# Altium footprint library descret_pcb.PcbLib: 152 footprints (part 6 of 10)
Each footprint in its own frame and in the unit in brackets; x right, y up, seen from the top. Pads: shape width x height; smd on the part's side, far side on the other; paste and mask are expansions set on the pad; w line width, h text height; cw(c..) or ccw(c..) is an arc to the next point about the centre after c.
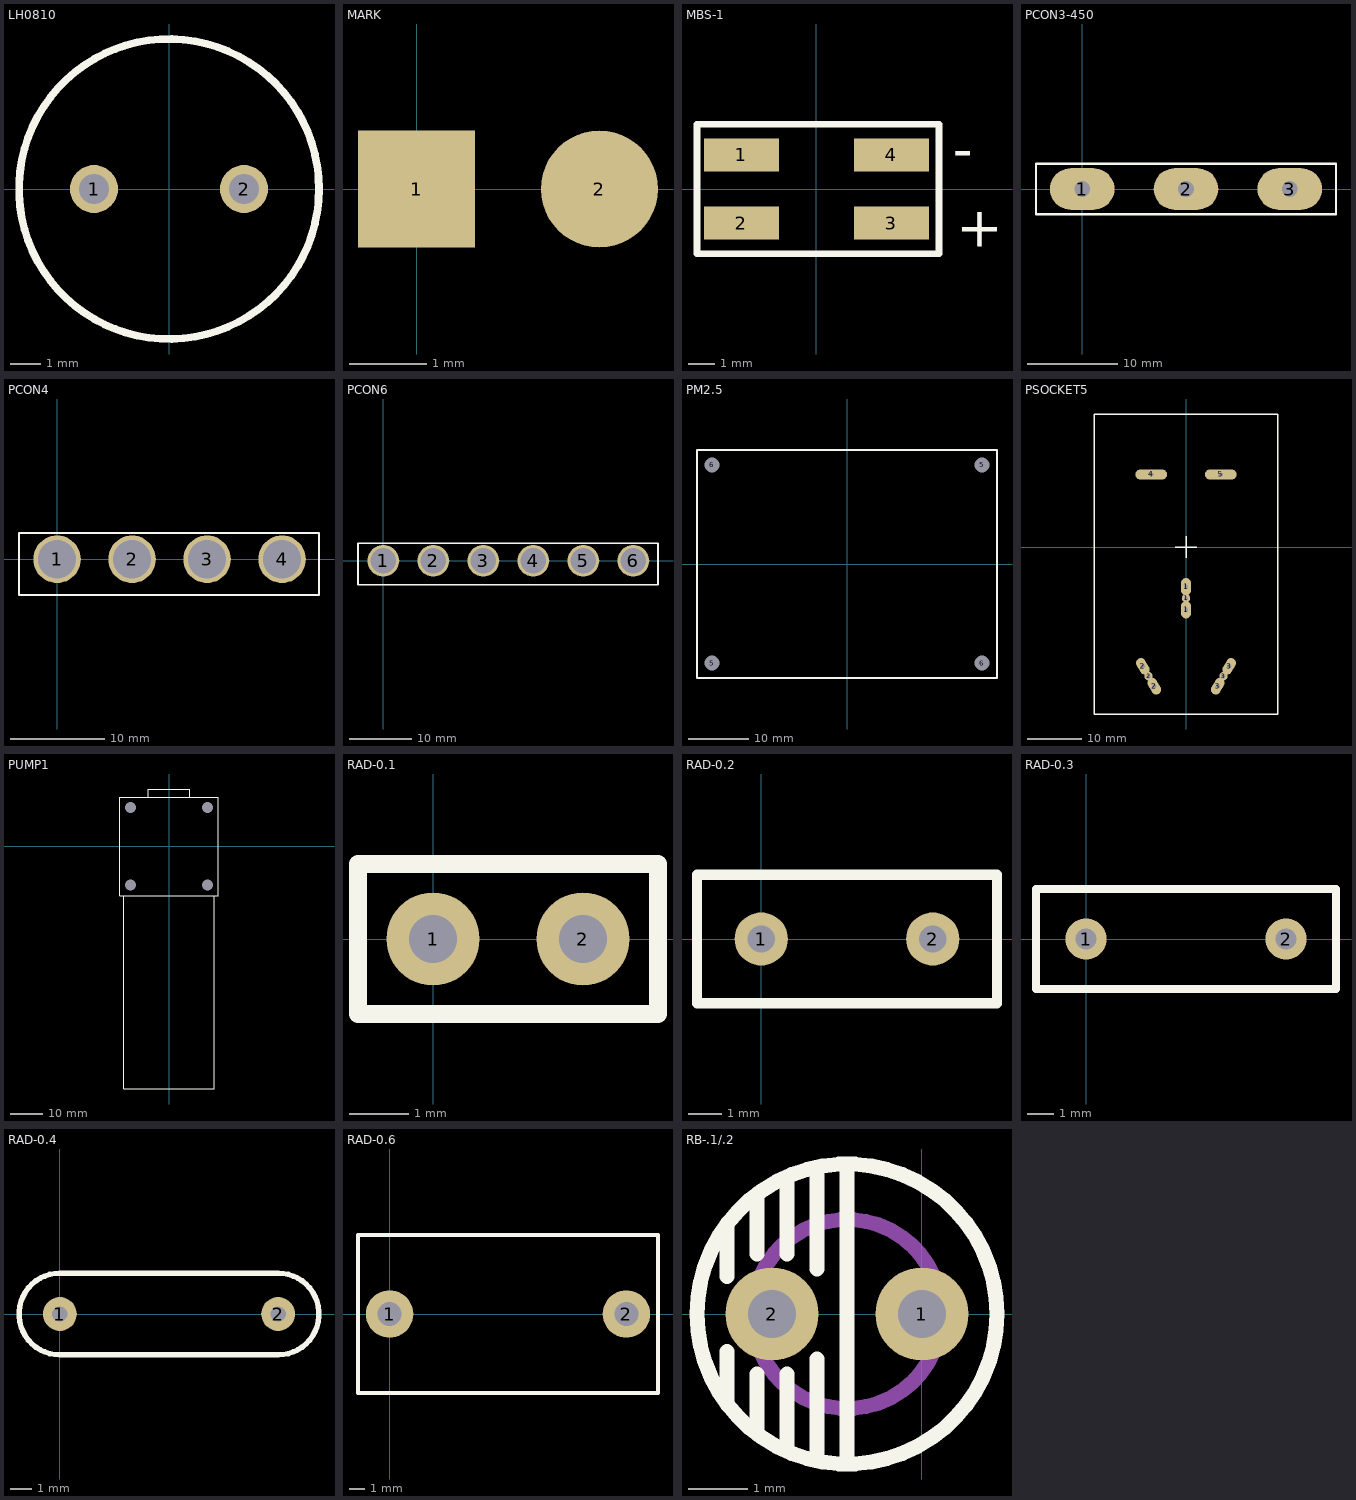
[diagram p5: the footprints below, top view; thin cyan lines are the x and y axes]

## LH0810 [mm]
pads (2):
  round 1.6 hole 1: 1(-2.5,0) 2(2.5,0)
TopOverlay:
  circle w0.254: c0,0 r5
3D body "Coilcraft-RFB0807.STEP": height 7.5, standoff -3.5, extent -4.4,-4.4 4.4,4.4

## MARK [mil]
pads (2):
  rect 60x60 smd: 1(0,0)
  round 60 smd: 2(93.7,0)

## MBS-1 [mil]
pads (4):
  rect 110x48 smd: 1(-110,50) 2(-110,-50) 3(110,-50) 4(110,50)
TopOverlay:
  lines w10: -175,-95 180,-95 180,95 -175,95 -175,-95
  text "-" at 200,30 h60
  text "+" at 205,-85 h60

## PCBComponent_1 [mil]

## PCON3-450 [mil]
pads (3):
  oval 280x180 hole 68: 1(0,0) 2(450,0) 3(900,0)
TopOverlay:
  lines w10: -200,-110 -200,110 1100,110 1100,-110 -200,-110
Mechanical1:
  lines w8: -85,-33 85,-33 85,33 -85,33 -85,-33 ; 365,-33 535,-33 535,33 365,33 365,-33 ; 815,-33 985,-33 985,33 815,33 815,-33

## PCON4 [mil]
pads (4):
  round 200 hole 160: 1(0,0) 2(315,0) 3(630,0) 4(945,0)
TopOverlay:
  lines w10: -160,-150 1100,-150 1100,110 -160,110 -160,-150

## PCON6 [mil]
pads (6):
  round 200 hole 160: 1(0,0) 2(315,0) 3(630,0) 4(945,0) 5(1260,0) 6(1575,0)
TopOverlay:
  lines w10: -160,-150 -160,110 1730,110 1730,-150 -160,-150

## PM2.5 [mm]
pads (4):
  round 1.524 hole 2.5: 5(-22.5,-16.5) 5(22.5,16.5) 6(-22.5,16.5) 6(22.5,-16.5)
TopOverlay:
  lines w0.254: -25,-19 -25,19 25,19 25,-19 -25,-19

## PSOCKET5 [mm]
pads (11):
  oval 1.8x3.2 hole 0.8: 1(0,-11.45) 1(0,-7.25)
  round 1.524 hole 0.762: 1(0,-9.35) 2(-6.842,-23.6) 3(6.842,-23.6)
  oval 1.8x3.2 hole 0.8 rot 30: 2(-7.892,-21.781) 2(-5.792,-25.419)
  oval 1.8x3.2 hole 0.8 rot 150: 3(5.792,-25.419) 3(7.892,-21.781)
  oval 5.8x1.8 hole 0.762: 4(-6.35,13.25) 5(6.35,13.25)
TopOverlay:
  lines w0.254: -2,0 2,0 ; 0,-2 0,2 ; -16.75,-30.5 16.75,-30.5 16.75,24.3 -16.75,24.3 -16.75,-30.5
Mechanical1:
  lines w0.2: -8.738,-21.115 -7.738,-22.847 -7.045,-22.447 -8.045,-20.715 -8.738,-21.115 ; -8.65,12.85 -8.65,13.65 -4.05,13.65 -4.05,12.85 -8.65,12.85 ; -6.638,-24.753 -5.945,-24.353 -4.945,-26.085 -5.638,-26.485 -6.638,-24.753 ; -0.4,-12.45 0.4,-12.45 0.4,-10.45 -0.4,-10.45 -0.4,-12.45 ; -0.4,-8.25 0.4,-8.25 0.4,-6.25 -0.4,-6.25 -0.4,-8.25 ; 4.05,12.85 4.05,13.65 8.65,13.65 8.65,12.85 4.05,12.85 ; 4.945,-26.085 5.638,-26.485 6.638,-24.753 5.945,-24.353 4.945,-26.085 ; 7.045,-22.447 7.738,-22.847 8.738,-21.115 8.045,-20.715 7.045,-22.447

## PUMP1 [mm]
pads (4):
  round 1.524 hole 3.4: 0(-12,12) 1(12,12) 2(-12,-12) 3(12,-12)
TopOverlay:
  lines w0.254: -14,-15.3 -14,-75.3 14,-75.3 14,-15.3 ; -6.5,15.3 -6.5,17.8 6.5,17.8 6.5,15.3 ; -15.3,-15.3 15.3,-15.3 15.3,15.3 -15.3,15.3 -15.3,-15.3

## RAD-0.1 [mil]
pads (2):
  round 62 hole 32: 1(0,0) 2(100,0)
TopOverlay:
  lines w12: -50,-50 -50,50 150,50 150,-50 -50,-50

## RAD-0.2 [mil]
pads (2):
  round 62 hole 32: 1(0,0) 2(200,0)
TopOverlay:
  lines w12: -75,-75 275,-75 275,75 -75,75 -75,-75

## RAD-0.3 [mil]
pads (2):
  round 62 hole 32: 1(0,0) 2(300,0)
TopOverlay:
  lines w12: -75,-75 -75,75 375,75 375,-75 -75,-75

## RAD-0.4 [mil]
pads (2):
  round 62 hole 28: 1(0,0) 2(400,0)
TopOverlay:
  lines w10: 0,-75 400,-75 ; 0,-74.8 cw(c0,0) 0,74.8 400,75 ; 400,-74.8 ccw(c400,0) 400,74.8

## RAD-0.6 [mil]
pads (2):
  round 120 hole 60: 1(0,0) 2(600,0)
TopOverlay:
  lines w10: -80,-200 680,-200 680,200 -80,200 -80,-200

## RB-.1/.2 [mil]
pads (2):
  round 62 hole 32: 1(0,0) 2(-100,0)
TopOverlay:
  circle w10: c-50,0 r100
  lines w10: -130,-60 -130,-25 ; -130,25 -130,60 ; -110,-80 -110,-40 ; -110,40 -110,80 ; -90,-90 -90,-40 ; -90,40 -90,90 ; -70,-95 -70,-30 ; -70,30 -70,95 ; -50,-100 -50,100
Mechanical1:
  circle w10: c-50,0 r62.99
3D body "User Library-CAPAER_D050_L080_P025_W005X030.STEP": height 315.49, standoff -118.11, extent -150,-98.43 47.25,98.43